# EAGLE library part AW9523B (library pimoroni-ics)
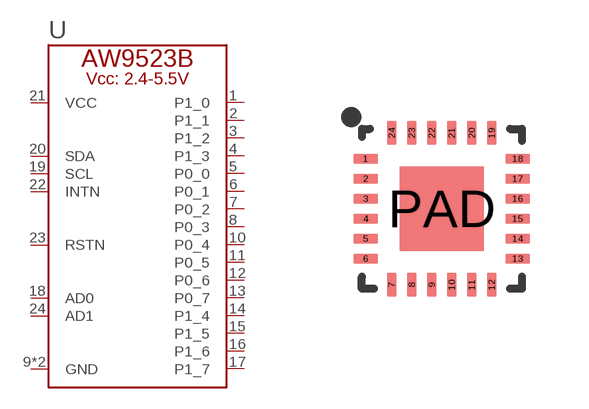
[diagram p139: symbol with the pads of QFN-24; footprint QFN-24]

Designator prefix U

## AW9523B  [QFN-24]
1  P1_0
2  P1_1
3  P1_2
4  P1_3
5  P0_0
6  P0_1
7  P0_2
8  P0_3
9  GND  pwr
10  P0_4
11  P0_5
12  P0_6
13  P0_7
14  P1_4
15  P1_5
16  P1_6
17  P1_7
18  AD0
19  SCL
20  SDA
21  VCC  pwr
22  INTN
23  RSTN
24  AD1
PAD  GND  pwr

## Footprint QFN-24 (pad centres in mm)
smd 0.6 x 0.24: 1 -1.9,1.25; 2 -1.9,0.75; 3 -1.9,0.25; 4 -1.9,-0.25; 5 -1.9,-0.75; 6 -1.9,-1.25; 13 1.9,-1.25; 14 1.9,-0.75; 15 1.9,-0.25; 16 1.9,0.25; 17 1.9,0.75; 18 1.9,1.25
smd 0.24 x 0.6: 7 -1.25,-1.9; 8 -0.75,-1.9; 9 -0.25,-1.9; 10 0.25,-1.9; 11 0.75,-1.9; 12 1.25,-1.9; 19 1.25,1.9; 20 0.75,1.9; 21 0.25,1.9; 22 -0.25,1.9; 23 -0.75,1.9; 24 -1.25,1.9
smd 2.1 x 2.1: PAD 0,0